# EAGLE library part MC14106BDG (library on-semiconductor-01)
Hex Schmitt Trigger
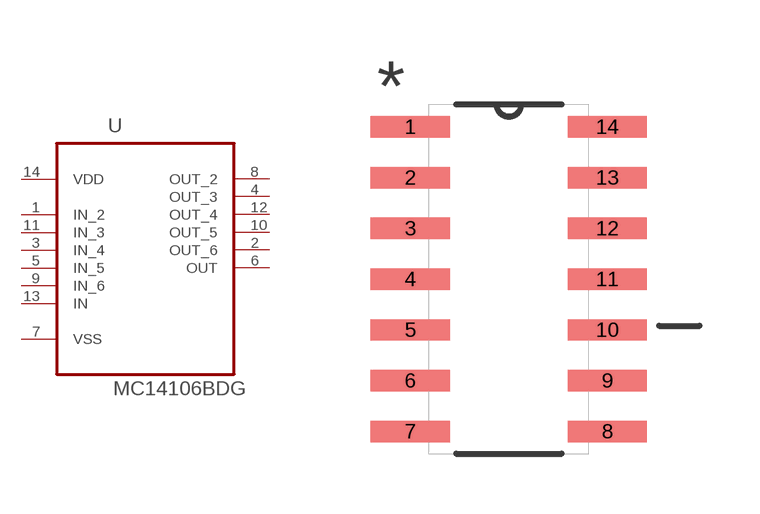
[diagram p268: symbol with the pads of SOIC127P600X175-14N; footprint SOIC127P600X175-14N]

Designator prefix U

## MC14106BDG (MPN: MC14106BDG; OC_FARNELL: 9666524; OC_NEWARK: 71J5483; PACKAGE: SOIC-14; SUPPLIER: ON SEMICONDUCTOR)  [SOIC127P600X175-14N]
1  IN_2  in
2  OUT_6  out
3  IN_4  in
4  OUT_3  out
5  IN_5  in
6  OUT  out
7  VSS  pas
8  OUT_2  out
9  IN_6  in
10  OUT_5  out
11  IN_3  in
12  OUT_4  out
13  IN  in
14  VDD  pwr

## Footprint SOIC127P600X175-14N (pad centres in mm)
smd 1.981 x 0.533: 1 -2.464,3.81; 2 -2.464,2.54; 3 -2.464,1.27; 4 -2.464,0; 5 -2.464,-1.27; 6 -2.464,-2.54; 7 -2.464,-3.81; 8 2.464,-3.81; 9 2.464,-2.54; 10 2.464,-1.27; 11 2.464,0; 12 2.464,1.27; 13 2.464,2.54; 14 2.464,3.81